# EAGLE library part AD7745_TSSOP_16 (library CDC_Parts)
The AD7745/AD7746 are a high resolution, Σ-Δ capacitance-todigital converter (CDC). The capacitance to be measured is connected directly to the device inputs. The architecture features inherent high resolution (24-bit no missing codes, up to 21-bit effective resolution), high linearity (±0.01%), and high accuracy (±4 fF factory calibrated). The AD7745/AD7746 capacitance input range is ±4 pF (changing), while it can accept up to 17 pF common-mode capacitance (not changing), which can be balanced by a programmable on-chip, digital-tocapacitance converter (CAPDAC). The AD7745 has one capacitance input channel, while the AD7746 has two channels. Each channel can be configured as single-ended or differential. The AD7745/AD7746 are designed for floating capacitive sensors. For capacitive sensors with one plate connected to ground, the AD7747 is recommended. The parts have an on-chip temperature sensor with a resolution of 0.1°C and accuracy of ±2°C. The on-chip voltage reference and the on-chip clock generator eliminate the need for any external components in capacitive sensor applications. The parts have a standard voltage input, which together with the differential reference input allows easy interface to an external temperature sensor, such as an RTD, thermistor, or diode. The AD7745/AD7746 have a 2-wire, I2 C-compatible serial interface. Both parts can operate with a single power supply from 2.7 V to 5.25 V. They are specified over the automotive temperature range of –40°C to +125°C and are housed in a 16-lead TSSOP package.
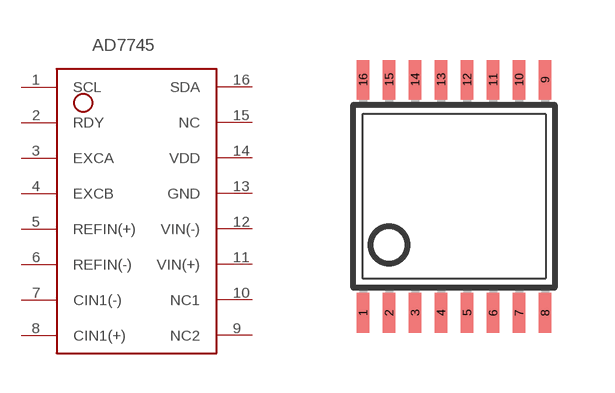
[diagram p4: symbol with the pads of AD7745_TSSOP_16; footprint AD7745_TSSOP_16]

Designator prefix -

## AD7745_TSSOP_16  [AD7745_TSSOP_16]
1  SCL
2  RDY
3  EXCA
4  EXCB
5  REFIN(+)
6  REFIN(-)
7  CIN1(-)
8  CIN1(+)
9  NC2
10  NC1
11  VIN(+)
12  VIN(-)
13  GND
14  VDD
15  NC
16  SDA

## Footprint AD7745_TSSOP_16 (pad centres in mm)
Thin Shrink Small Outline Plastic TSSOP16
smd 0.305 x 0.991: 1 -2.275,-2.918; 2 -1.625,-2.918; 3 -0.975,-2.918; 4 -0.325,-2.918; 5 0.325,-2.918; 6 0.975,-2.918; 7 1.625,-2.918; 8 2.275,-2.918; 9 2.275,2.918; 10 1.625,2.918; 11 0.975,2.918; 12 0.325,2.918; 13 -0.325,2.918; 14 -0.975,2.918; 15 -1.625,2.918; 16 -2.275,2.918